# EAGLE library part NTX2 (library avaHabLbr)
Radiometrix NTX2 Transmitter Module Author Anthony Stirk / http://ava.upuaut.net
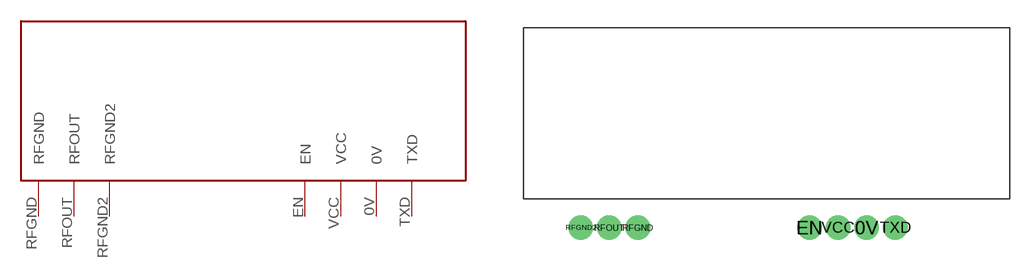
[diagram p0: symbol with the pads of NTX2; footprint NTX2]

Designator prefix -

## NTX2  [NTX2]
0V  0V
EN  EN
RFGND  RFGND
RFGND2  RFGND2
RFOUT  RFOUT
TXD  TXD
VCC  VCC

## Footprint NTX2 (pad centres in mm)
Radiometrix NTX2 http://www.radiometrix.com/files/additional/ntx2nrx2.pdf Flat mounted orientation
drill 0.7 pad 2.184: 0V -2.54,-10.16; EN -7.62,-10.16; RFGND -22.86,-10.16; RFGND2 -27.94,-10.16; RFOUT -25.4,-10.16; TXD 0,-10.16; VCC -5.08,-10.16